# EAGLE library part XCV1000E_PQ208 (library xilinx-xcv)
xcv1000e_pq208 edit this description Auto generated by make-symbol-device-package-bsdl.ulp Rev. 26 Source: xcv1000e_pq208.bsd
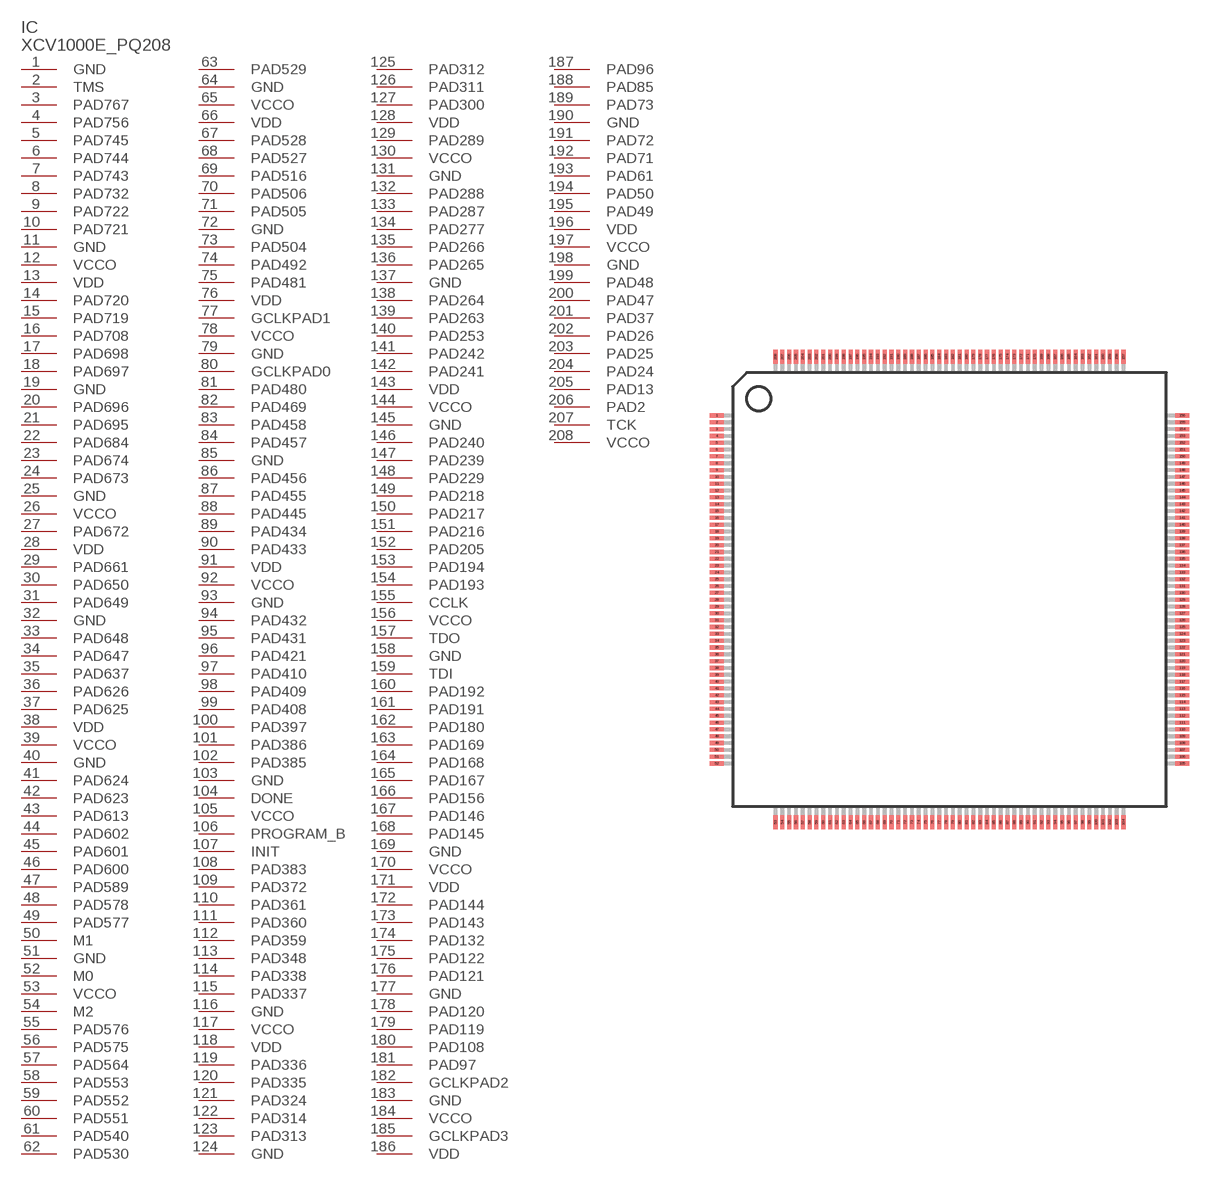
[diagram p15: symbol with the pads of PQ208; footprint PQ208]

Designator prefix IC

## XCV1000E_PQ208 (OC_FARNELL: unknown; OC_NEWARK: unknown)  [PQ208]
1  GND  pwr
2  TMS  in
3  PAD767
4  PAD756
5  PAD745
6  PAD744
7  PAD743
8  PAD732
9  PAD722
10  PAD721
11  GND  pwr
12  VCCO  pwr
13  VDD  pwr
14  PAD720
15  PAD719
16  PAD708
17  PAD698
18  PAD697
19  GND  pwr
20  PAD696
21  PAD695
22  PAD684
23  PAD674
24  PAD673
25  GND  pwr
26  VCCO  pwr
27  PAD672
28  VDD  pwr
29  PAD661
30  PAD650
31  PAD649
32  GND  pwr
33  PAD648
34  PAD647
35  PAD637
36  PAD626
37  PAD625
38  VDD  pwr
39  VCCO  pwr
40  GND  pwr
41  PAD624
42  PAD623
43  PAD613
44  PAD602
45  PAD601
46  PAD600
47  PAD589
48  PAD578
49  PAD577
50  M1  in
51  GND  pwr
52  M0  in
53  VCCO  pwr
54  M2  in
55  PAD576
56  PAD575
57  PAD564
58  PAD553
59  PAD552
60  PAD551
61  PAD540
62  PAD530
63  PAD529
64  GND  pwr
65  VCCO  pwr
66  VDD  pwr
67  PAD528
68  PAD527
69  PAD516
70  PAD506
71  PAD505
72  GND  pwr
73  PAD504
74  PAD492
75  PAD481
76  VDD  pwr
77  GCLKPAD1  in
78  VCCO  pwr
79  GND  pwr
80  GCLKPAD0  in
81  PAD480
82  PAD469
83  PAD458
84  PAD457
85  GND  pwr
86  PAD456
87  PAD455
88  PAD445
89  PAD434
90  PAD433
91  VDD  pwr
92  VCCO  pwr
93  GND  pwr
94  PAD432
95  PAD431
96  PAD421
97  PAD410
98  PAD409
99  PAD408
100  PAD397
101  PAD386
102  PAD385
103  GND  pwr
104  DONE
105  VCCO  pwr
106  PROGRAM_B  in
107  INIT
108  PAD383
109  PAD372
110  PAD361
111  PAD360
112  PAD359
113  PAD348
114  PAD338
115  PAD337
116  GND  pwr
117  VCCO  pwr
118  VDD  pwr
119  PAD336
120  PAD335
121  PAD324
122  PAD314
123  PAD313
124  GND  pwr
125  PAD312
126  PAD311
127  PAD300
128  VDD  pwr
129  PAD289
130  VCCO  pwr
131  GND  pwr
132  PAD288
133  PAD287
134  PAD277
135  PAD266
136  PAD265
137  GND  pwr
138  PAD264
139  PAD263
140  PAD253
141  PAD242
142  PAD241
143  VDD  pwr
144  VCCO  pwr
145  GND  pwr
146  PAD240
147  PAD239
148  PAD229
149  PAD218
150  PAD217
151  PAD216
152  PAD205
153  PAD194
154  PAD193
155  CCLK
156  VCCO  pwr
157  TDO  out
158  GND  pwr
159  TDI  in
160  PAD192
161  PAD191
162  PAD180
163  PAD169
164  PAD168
165  PAD167
166  PAD156
167  PAD146
168  PAD145
169  GND  pwr
170  VCCO  pwr
171  VDD  pwr
172  PAD144
173  PAD143
174  PAD132
175  PAD122
176  PAD121
177  GND  pwr
178  PAD120
179  PAD119
180  PAD108
181  PAD97
182  GCLKPAD2  in
183  GND  pwr
184  VCCO  pwr
185  GCLKPAD3  in
186  VDD  pwr
187  PAD96
188  PAD85
189  PAD73
190  GND  pwr
191  PAD72
192  PAD71
193  PAD61
194  PAD50
195  PAD49
196  VDD  pwr
197  VCCO  pwr
198  GND  pwr
199  PAD48
200  PAD47
201  PAD37
202  PAD26
203  PAD25
204  PAD24
205  PAD13
206  PAD2
207  TCK  in
208  VCCO  pwr

## Footprint PQ208 (pad centres in mm)
PQ208 Auto generated by make-symbol-device-package-bsdl.ulp Rev. 26
smd 1 x 0.3: 1 -17.05,12.75; 2 -17.05,12.25; 3 -17.05,11.75; 4 -17.05,11.25; 5 -17.05,10.75; 6 -17.05,10.25; 7 -17.05,9.75; 8 -17.05,9.25; 9 -17.05,8.75; 10 -17.05,8.25; 11 -17.05,7.75; 12 -17.05,7.25; 13 -17.05,6.75; 14 -17.05,6.25; 15 -17.05,5.75; 16 -17.05,5.25; 17 -17.05,4.75; 18 -17.05,4.25; 19 -17.05,3.75; 20 -17.05,3.25; 21 -17.05,2.75; 22 -17.05,2.25; 23 -17.05,1.75; 24 -17.05,1.25; 25 -17.05,0.75; 26 -17.05,0.25; 27 -17.05,-0.25; 28 -17.05,-0.75; 29 -17.05,-1.25; 30 -17.05,-1.75; 31 -17.05,-2.25; 32 -17.05,-2.75; 33 -17.05,-3.25; 34 -17.05,-3.75; 35 -17.05,-4.25; 36 -17.05,-4.75; 37 -17.05,-5.25; 38 -17.05,-5.75; 39 -17.05,-6.25; 40 -17.05,-6.75; 41 -17.05,-7.25; 42 -17.05,-7.75; 43 -17.05,-8.25; 44 -17.05,-8.75; 45 -17.05,-9.25; 46 -17.05,-9.75; 47 -17.05,-10.25; 48 -17.05,-10.75; 49 -17.05,-11.25; 50 -17.05,-11.75; 51 -17.05,-12.25; 52 -17.05,-12.75; 105 17.05,-12.75; 106 17.05,-12.25; 107 17.05,-11.75; 108 17.05,-11.25; 109 17.05,-10.75; 110 17.05,-10.25; 111 17.05,-9.75; 112 17.05,-9.25; 113 17.05,-8.75; 114 17.05,-8.25; 115 17.05,-7.75; 116 17.05,-7.25; 117 17.05,-6.75; 118 17.05,-6.25; 119 17.05,-5.75; 120 17.05,-5.25; 121 17.05,-4.75; 122 17.05,-4.25; 123 17.05,-3.75; 124 17.05,-3.25; 125 17.05,-2.75; 126 17.05,-2.25; 127 17.05,-1.75; 128 17.05,-1.25; 129 17.05,-0.75; 130 17.05,-0.25; 131 17.05,0.25; 132 17.05,0.75; 133 17.05,1.25; 134 17.05,1.75; 135 17.05,2.25; 136 17.05,2.75; 137 17.05,3.25; 138 17.05,3.75; 139 17.05,4.25; 140 17.05,4.75; 141 17.05,5.25; 142 17.05,5.75; 143 17.05,6.25; 144 17.05,6.75; 145 17.05,7.25; 146 17.05,7.75; 147 17.05,8.25; 148 17.05,8.75; 149 17.05,9.25; 150 17.05,9.75; 151 17.05,10.25; 152 17.05,10.75; 153 17.05,11.25; 154 17.05,11.75; 155 17.05,12.25; 156 17.05,12.75
smd 0.3 x 1: 53 -12.75,-17.05; 54 -12.25,-17.05; 55 -11.75,-17.05; 56 -11.25,-17.05; 57 -10.75,-17.05; 58 -10.25,-17.05; 59 -9.75,-17.05; 60 -9.25,-17.05; 61 -8.75,-17.05; 62 -8.25,-17.05; 63 -7.75,-17.05; 64 -7.25,-17.05; 65 -6.75,-17.05; 66 -6.25,-17.05; 67 -5.75,-17.05; 68 -5.25,-17.05; 69 -4.75,-17.05; 70 -4.25,-17.05; 71 -3.75,-17.05; 72 -3.25,-17.05; 73 -2.75,-17.05; 74 -2.25,-17.05; 75 -1.75,-17.05; 76 -1.25,-17.05; 77 -0.75,-17.05; 78 -0.25,-17.05; 79 0.25,-17.05; 80 0.75,-17.05; 81 1.25,-17.05; 82 1.75,-17.05; 83 2.25,-17.05; 84 2.75,-17.05; 85 3.25,-17.05; 86 3.75,-17.05; 87 4.25,-17.05; 88 4.75,-17.05; 89 5.25,-17.05; 90 5.75,-17.05; 91 6.25,-17.05; 92 6.75,-17.05; 93 7.25,-17.05; 94 7.75,-17.05; 95 8.25,-17.05; 96 8.75,-17.05; 97 9.25,-17.05; 98 9.75,-17.05; 99 10.25,-17.05; 100 10.75,-17.05; 101 11.25,-17.05; 102 11.75,-17.05; 103 12.25,-17.05; 104 12.75,-17.05; 157 12.75,17.05; 158 12.25,17.05; 159 11.75,17.05; 160 11.25,17.05; 161 10.75,17.05; 162 10.25,17.05; 163 9.75,17.05; 164 9.25,17.05; 165 8.75,17.05; 166 8.25,17.05; 167 7.75,17.05; 168 7.25,17.05; 169 6.75,17.05; 170 6.25,17.05; 171 5.75,17.05; 172 5.25,17.05; 173 4.75,17.05; 174 4.25,17.05; 175 3.75,17.05; 176 3.25,17.05; 177 2.75,17.05; 178 2.25,17.05; 179 1.75,17.05; 180 1.25,17.05; 181 0.75,17.05; 182 0.25,17.05; 183 -0.25,17.05; 184 -0.75,17.05; 185 -1.25,17.05; 186 -1.75,17.05; 187 -2.25,17.05; 188 -2.75,17.05; 189 -3.25,17.05; 190 -3.75,17.05; 191 -4.25,17.05; 192 -4.75,17.05; 193 -5.25,17.05; 194 -5.75,17.05; 195 -6.25,17.05; 196 -6.75,17.05; 197 -7.25,17.05; 198 -7.75,17.05; 199 -8.25,17.05; 200 -8.75,17.05; 201 -9.25,17.05; 202 -9.75,17.05; 203 -10.25,17.05; 204 -10.75,17.05; 205 -11.25,17.05; 206 -11.75,17.05; 207 -12.25,17.05; 208 -12.75,17.05